# EAGLE library part CF050P2 (library con-yamaichi)
Compact Flash Card Reader, Type I and II CF 050 P2 - * 03 - * 0 - DS
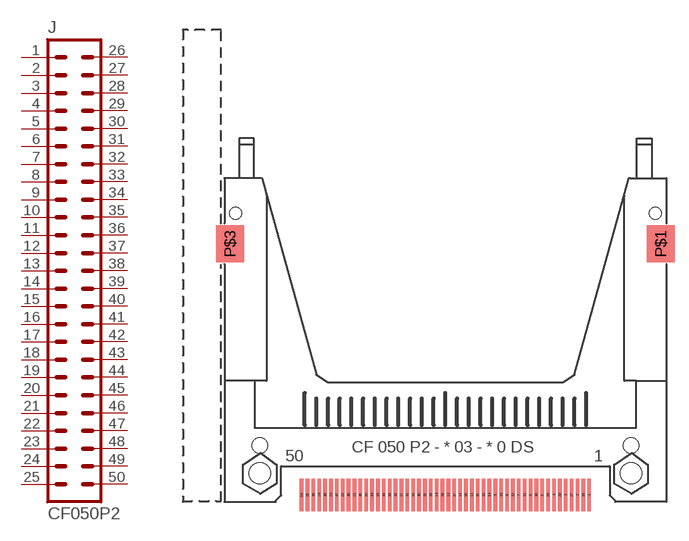
[diagram p32: symbol with the pads of CF050P2; footprint CF050P2]

Designator prefix J

## CF050P2  [CF050P2]
1  1  pas
2  2  pas
3  3  pas
4  4  pas
5  5  pas
6  6  pas
7  7  pas
8  8  pas
9  9  pas
10  10  pas
11  11  pas
12  12  pas
13  13  pas
14  14  pas
15  15  pas
16  16  pas
17  17  pas
18  18  pas
19  19  pas
20  20  pas
21  21  pas
22  22  pas
23  23  pas
24  24  pas
25  25  pas
26  26  pas
27  27  pas
28  28  pas
29  29  pas
30  30  pas
31  31  pas
32  32  pas
33  33  pas
34  34  pas
35  35  pas
36  36  pas
37  37  pas
38  38  pas
39  39  pas
40  40  pas
41  41  pas
42  42  pas
43  43  pas
44  44  pas
45  45  pas
46  46  pas
47  47  pas
48  48  pas
49  49  pas
50  50  pas

## Footprint CF050P2 (pad centres in mm)
CF 050 P2 - * 03 - * 0 - DS Compact Flash Card Reader, Type I and II Yamaichi Electronics Cadded by Lutz Lisseck, Jan. 2003
smd 0.4 x 3.5: 1 15.557,-5.35; 2 14.287,-5.35; 3 13.018,-5.35; 4 11.748,-5.35; 5 10.477,-5.35; 6 9.207,-5.35; 7 7.938,-5.35; 8 6.668,-5.35; 9 5.397,-5.35; 10 4.128,-5.35; 11 2.857,-5.35; 12 1.587,-5.35; 13 0.318,-5.35; 14 -0.953,-5.35; 15 -2.223,-5.35; 16 -3.493,-5.35; 17 -4.763,-5.35; 18 -6.032,-5.35; 19 -7.303,-5.35; 20 -8.572,-5.35; 21 -9.842,-5.35; 22 -11.113,-5.35; 23 -12.383,-5.35; 24 -13.652,-5.35; 25 -14.922,-5.35; 26 14.922,-5.35; 27 13.652,-5.35; 28 12.383,-5.35; 29 11.113,-5.35; 30 9.842,-5.35; 31 8.572,-5.35; 32 7.303,-5.35; 33 6.032,-5.35; 34 4.763,-5.35; 35 3.493,-5.35; 36 2.223,-5.35; 37 0.953,-5.35; 38 -0.318,-5.35; 39 -1.587,-5.35; 40 -2.857,-5.35; 41 -4.128,-5.35; 42 -5.397,-5.35; 43 -6.668,-5.35; 44 -7.938,-5.35; 45 -9.207,-5.35; 46 -10.477,-5.35; 47 -11.748,-5.35; 48 -13.018,-5.35; 49 -14.287,-5.35; 50 -15.557,-5.35
smd 3 x 4: P$1 23.3,21.8; P$3 -23.3,21.8
hole 1.7 at -20.08,0
hole 2.3 at -20.08,-3
hole 2.3 at 20.08,-3
hole 1.7 at 20.08,0
hole 1.3 at 22.7,25.1
hole 1.3 at -22.7,25.1